# EAGLE library part PLATING_CONNECTOR (library RHD2000)
CnC Tech 10-pin right angle connector (DigiKey 1175-1628-ND)
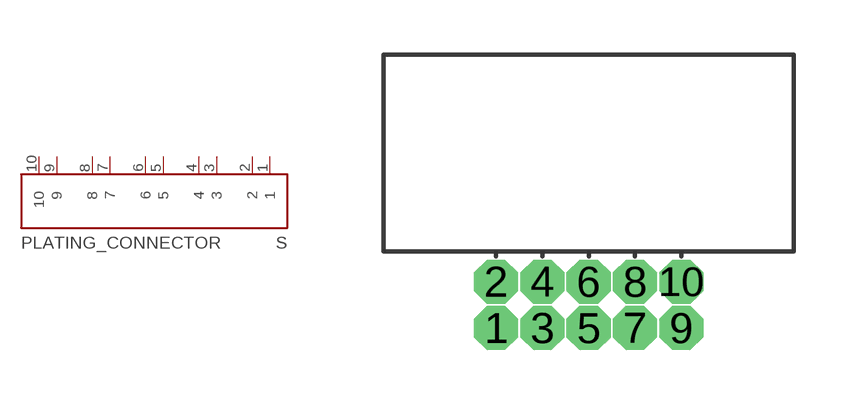
[diagram p7: symbol with the pads of CNC-TECH-10_THRU; footprint CNC-TECH-10_THRU]

Designator prefix S

## PLATING_CONNECTOR  [CNC-TECH-10_THRU]
1  1
2  2
3  3
4  4
5  5
6  6
7  7
8  8
9  9
10  10

## Footprint CNC-TECH-10_THRU (pad centres in mm)
drill 0.7 pad 1.05 octagon: 1 -2.54,-1.27; 2 -2.54,0; 3 -1.27,-1.27; 4 -1.27,0; 5 0,-1.27; 6 0,0; 7 1.27,-1.27; 8 1.27,0; 9 2.54,-1.27; 10 2.54,0